# Altium integrated library NE12S0A0V10PNFA.IntLib: 1 symbol
Pins are listed as number, name and electrical type; pins without a type are passive.

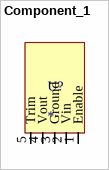
[diagram p0: symbol Component_1]

## Component_1
designator U?
footprint NE12S0A0V10PNFA
pins: 1 Enable (io), 2 Vin (in), 3 Ground (power), 4 Vout (out), 5 Trim